# Altium footprint library Diodes.PcbLib: 57 footprints (part 4 of 4)
Each footprint in its own frame and in the unit in brackets; x right, y up, seen from the top. Pads: shape width x height; smd on the part's side, far side on the other; paste and mask are expansions set on the pad; w line width, h text height; cw(c..) or ccw(c..) is an arc to the next point about the centre after c.
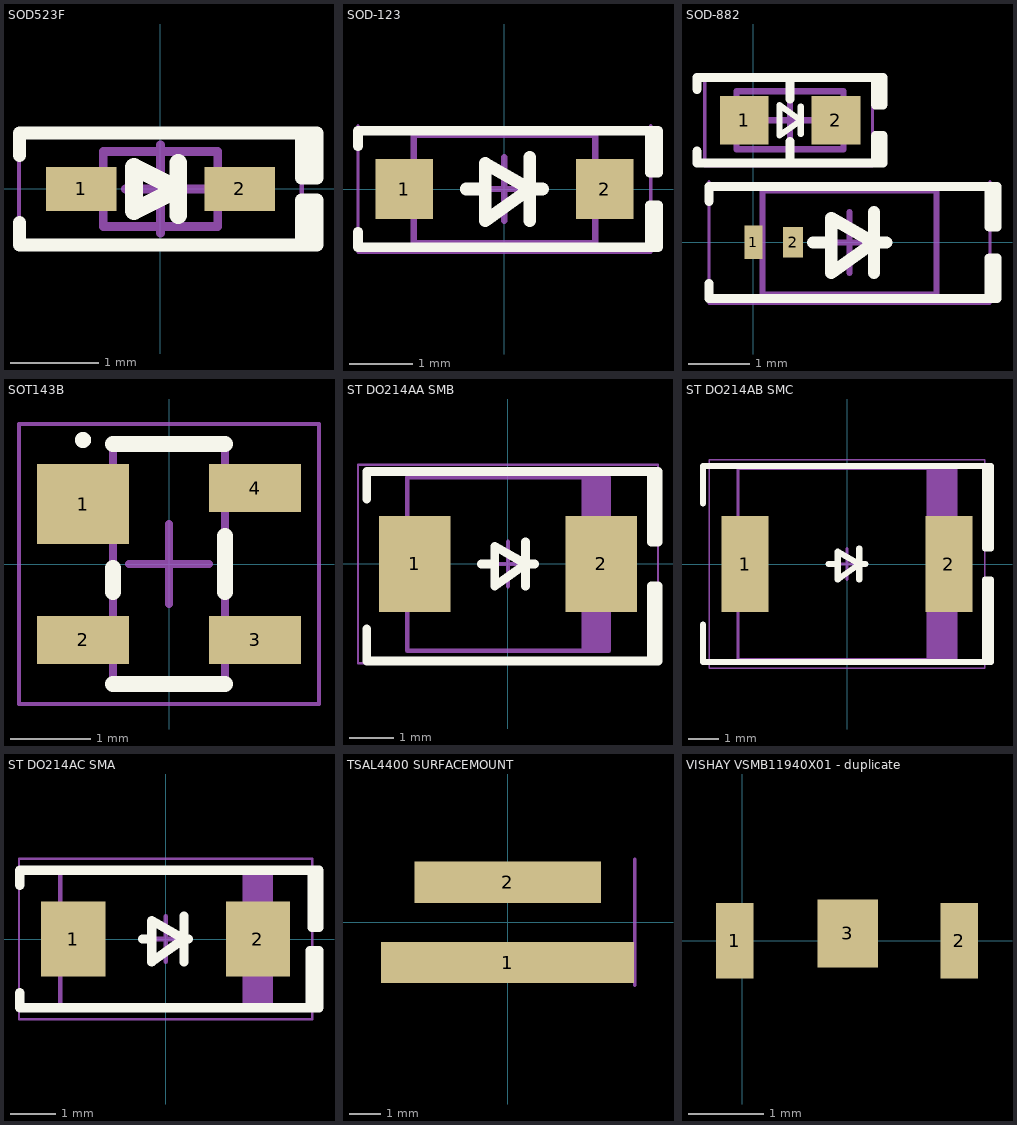
[diagram p3: the footprints below, top view; thin cyan lines are the x and y axes]

## SOD523F [mm] "SODFL, 2-Leads, Body 0.80x1.60mm, IPC Medium Density"
height 0.77
pads (2):
  rect 0.8x0.5 smd: 1(-0.9,0) 2(0.9,0)
Top Overlay:
  rectangle: 1.6,-0.6 1.8,-0.127
  rectangle: 1.6,0.127 1.778,0.635
  lines w0.15: -1.6,-0.381 -1.6,-0.635 1.651,-0.635 ; -1.6,0.381 -1.6,0.635 1.651,0.635 ; 1.6,-0.635 1.6,-0.127 1.778,-0.127 1.778,-0.635 1.6,-0.635 ; 1.6,0.127 1.778,0.127 1.778,0.635 1.6,0.635 1.6,0.127
  lines w0.2: 0.2,-0.3 0.2,0.3 ; -0.3,-0.25 0.2,0 -0.3,0.25 -0.3,-0.1 -0.3,-0.25
Mechanical 13:
  lines w0.1: -0.65,-0.425 -0.65,0.425 0.65,0.425 0.65,-0.425 -0.65,-0.425
Mechanical 15:
  lines w0.05: -1.606,-0.6 -1.606,0.6 1.606,0.6 1.606,-0.6 -1.606,-0.6
  lines w0.1: -0.4,0 0.6,0 ; 0,-0.5 0,0.5
3D body "SOD523F.STEP": height 0.65, standoff 0, extent -0.8,-0.4 0.8,0.4

## SOD-123 [mm] "SOD, 2-Leads, Body 1.55x3.70mm, IPC Medium Density"
height 1.35
pads (2):
  rect 0.9x0.95 smd: 1(-1.575,0) 2(1.575,0)
Top Overlay:
  lines w0.15: -2.3,-0.675 -2.3,-0.916 2.286,-0.916 ; -2.3,0.675 -2.3,0.916 2.286,0.916 ; 2.286,-0.916 2.413,-0.916 2.413,-0.254 2.286,-0.254 2.286,-0.916 ; 2.286,0.916 2.286,0.254 2.413,0.254 2.413,0.916 2.286,0.916
  lines w0.2: -0.6,0 -0.3,0 ; 0.4,-0.5 0.4,0.5 ; 0.6,0 0.4,0 ; 0.4,0 -0.3,0.4 -0.3,-0.5 0.4,0
Mechanical 13:
  lines w0.1: -1.425,-0.85 -1.425,0.85 1.425,0.85 1.425,-0.85 -1.425,-0.85
Mechanical 15:
  lines w0.05: -2.3,0.9 2.3,0.9 ; -2.3,1 -2.3,-1 2.3,-1 2.3,1
  lines w0.1: -0.5,0 0.5,0 ; 0,-0.5 0,0.5
3D body: height 1.35, standoff 0, extent -1.424,-0.849 1.424,0.849
3D body: height 1.35, standoff 0, extent -2.325,-1.025 2.325,1.025
3D body: height 1.35, standoff 0, extent -2.127,-0.577 2.127,0.577
3D body "SOD-123.STEP": height 1.35, standoff 0, extent -1.864,-0.775 1.864,0.775

## SOD-882 [mm] "SOD, 2-Leads, Body 1.0x.60mm, IPC Medium Density"
height 1.35
pads (4):
  rect 0.8x0.8 smd: 1(-0.15,2) 2(1.35,2)
  rect 0.3x0.55 smd: 1(0,0)
  rect 0.33x0.5 smd: 2(0.65,0)
Top Overlay:
  lines w0.1: 0.775,1.775 0.775,2 ; 0.775,2.225 0.775,2 ; 0.775,2 0.425,1.75 0.425,2 0.425,2.25 0.775,2
  lines w0.15: -0.924,1.492 -0.924,1.3 2.1,1.3 ; -0.924,2.508 -0.924,2.7 2.1,2.7 ; -0.725,-0.675 -0.725,-0.916 3.861,-0.916 ; -0.725,0.675 -0.725,0.916 3.861,0.916 ; 0.6,1.3 0.6,1.65 ; 0.6,2.35 0.6,2.7 ; 3.861,-0.916 3.988,-0.916 3.988,-0.254 3.861,-0.254 3.861,-0.916 ; 3.861,0.916 3.861,0.254 3.988,0.254 3.988,0.916 3.861,0.916 ; 1.997,1.3 1.997,1.746 2.124,1.746 2.124,1.3 1.997,1.3 ; 1.997,2.254 1.997,2.7 2.124,2.7 2.124,2.254 1.997,2.254
  lines w0.2: 0.975,0 1.275,0 ; 1.975,-0.5 1.975,0.5 ; 2.175,0 1.975,0 ; 1.975,0 1.275,0.4 1.275,-0.5 1.975,0
Mechanical 13:
  lines w0.1: -0.275,1.525 1.475,1.525 1.475,2.475 -0.275,2.475 -0.275,1.525 ; 0.15,-0.85 0.15,0.85 3,0.85 3,-0.85 0.15,-0.85
Mechanical 15:
  lines w0.05: -0.725,0.9 3.875,0.9 ; -0.725,1 -0.725,-1 3.875,-1 3.875,1 ; -0.797,1.25 1.95,1.25 1.95,2.75 -0.797,2.75 -0.797,1.25
  lines w0.1: 0.125,2 1.075,2 ; 0.6,1.525 0.6,2.475 ; 1.075,0 2.075,0 ; 1.575,-0.5 1.575,0.5
3D body "SOD-123.STEP": height 1.35, standoff 0, extent -0.289,-0.775 3.439,0.775
3D body "LED 0603 Base WHITE.STEP": height 0.28, standoff 0, extent -0.2,1.6 1.4,2.4
3D body "LED 0603 Lens WHITE.STEP": height 0.53, standoff 0.18, extent 0.05,1.6 1.15,2.4

## SOT143B [mm] "SOT143, 4-Leads, Body 2.90x2.30mm, Pitch 1.90mm, IPC Medium Density"
height 1.1
pads (4):
  rect 1.15x1 smd: 1(-1.075,0.75)
  rect 1.15x0.6 smd: 2(-1.075,-0.95) 3(1.075,-0.95) 4(1.075,0.95)
Top Overlay:
  circle w0.1: c-1.075,1.55 r0.05
  lines w0.2: -0.7,-1.5 0.7,-1.5 ; -0.7,-0.35 -0.7,-0.05 ; -0.7,1.5 0.7,1.5 ; 0.7,-0.35 0.7,0.35
Mechanical 13:
  lines w0.1: -0.7,-1.5 -0.7,1.5 0.7,1.5 0.7,-1.5 -0.7,-1.5
Mechanical 15:
  lines w0.05: -1.875,-1.75 -1.875,1.75 1.875,1.75 1.875,-1.75 -1.875,-1.75
  lines w0.1: -0.5,0 0.5,0 ; 0,-0.5 0,0.5
3D body "SOT143B.STEP": height 1, standoff 0, extent -1.1,-1.45 1.1,1.45

## ST DO214AA SMB [mm] "Molded Diode, 2-Leads, Body 4.31x3.62mm, IPC Medium Density"
height 2.44
pads (2):
  rect 1.62x2.18 smd: 1(-2.11,0) 2(2.11,0)
Top Overlay:
  lines w0.2: -3.2,-1.475 -3.2,-2.2 3.25,-2.2 ; -3.2,1.475 -3.2,2.1 3.4,2.1 3.4,0.5 3.25,0.5 3.25,2.1 ; -0.6,0 -0.3,0 ; 0.4,-0.5 0.4,0.5 ; 0.6,0 0.4,0 ; 0.4,0 -0.3,-0.5 -0.3,0.4 0.4,0 ; 3.25,-2.2 3.25,-0.5 3.4,-0.5 3.4,-2.2 3.25,-2.2
Mechanical 13:
  rectangle: 1.67,-1.97 2.285,1.97
  lines w0.1: -2.285,-1.97 -2.285,1.97 2.285,1.97 2.285,-1.97 -2.285,-1.97
Mechanical 15:
  lines w0.05: -3.4,-2.25 -3.4,2.25 3.4,2.25 3.4,-2.25 -3.4,-2.25
  lines w0.1: -0.5,0 0.5,0 ; 0,-0.5 0,0.5
3D body "SMB.STEP": height 2.4, standoff 0, extent -2.6,-1.799 2.6,1.8

## ST DO214AB SMC [mm] "Molded Diode, 2-Leads, Body 6.85x5.90mm, IPC Medium Density"
height 2.62
pads (2):
  rect 1.54x3.14 smd: 1(-3.325,0) 2(3.325,0)
Top Overlay:
  lines w0.2: -4.7,-1.975 -4.7,-3.2 4.7,-3.2 4.7,-0.5 4.5,-0.5 4.5,-3.2 ; -4.7,1.975 -4.7,3.2 4.7,3.2 4.7,0.5 4.5,0.5 4.5,3.2 ; -0.6,0 -0.3,0 ; 0.4,-0.5 0.4,0.5 ; 0.6,0 0.4,0 ; 0.4,0 -0.3,0.4 -0.3,-0.5 0.4,0
Mechanical 13:
  rectangle: 2.599,-3.11 3.555,3.11
  lines w0.1: -3.555,-3.11 -3.555,3.11 3.555,3.11 3.555,-3.11 -3.555,-3.11
Mechanical 15:
  lines w0.05: -4.5,-3.4 -4.5,3.4 4.5,3.4 4.5,-3.4 -4.5,-3.4
  lines w0.1: -0.5,0 0.5,0 ; 0,-0.5 0,0.5
3D body "SMC.STEP": height 2.6, standoff 0, extent -3.97,-2.952 3.97,2.952

## ST DO214AC SMA [mm] "Molded Diode, 2-Leads, Body 4.30x2.60mm, IPC Medium Density"
height 2.4
pads (2):
  rect 1.4x1.64 smd: 1(-2.015,0) 2(2.015,0)
Top Overlay:
  lines w0.2: -3.183,-1.175 -3.183,-1.5 3.35,-1.5 3.35,-0.254 3.156,-0.254 3.156,-1.5 ; -3.183,1.175 -3.183,1.5 3.35,1.5 3.35,0.254 3.2,0.254 3.2,1.5 ; -0.5,0 -0.3,0 ; 0.4,-0.5 0.4,0.5 ; 0.5,0 0.4,0 ; 0.4,0 -0.3,0.4 -0.3,-0.5 0.4,0
Mechanical 13:
  rectangle: 1.681,-1.46 2.3,1.46
  lines w0.1: -2.3,-1.46 -2.3,1.46 2.3,1.46 2.3,-1.46 -2.3,-1.46
Mechanical 15:
  lines w0.05: -3.2,-1.75 -3.2,1.75 3.2,1.75 3.2,-1.75 -3.2,-1.75
  lines w0.1: -0.5,0 0.5,0 ; 0,-0.5 0,0.5
3D body "SMA.STEP": height 2.4, standoff 0, extent -2.6,-1.375 2.6,1.375

## TSAL4400 SURFACEMOUNT [mm]
height 0.6
pads (2):
  rect 8x1.3 smd: 1(0,-1.27)
  rect 5.9x1.3 smd: 2(0,1.27)
Mechanical 1:
  lines w0.1: 4.02,-2 4.02,2
3D body "Vishay TSAL4400 Custom Lead Size.step": height 1.8, standoff -1.4, extent -4.759,-1.595 9.342,1.605

## VISHAY VSMB11940X01 - duplicate [mm]
height 0.6
pads (3):
  rect 0.5x1 smd: 1(-0.102,0) 2(2.87,0)
  rect 0.8x0.9 smd: 3(1.397,0.1)
3D body "Vishay VSMB11940.STEP": height 0.6, standoff 0, extent -0.128,-1.525 2.872,0.475